# EAGLE library part 74*125 (library U-7400)
Quad bus BUFFER, 3-state
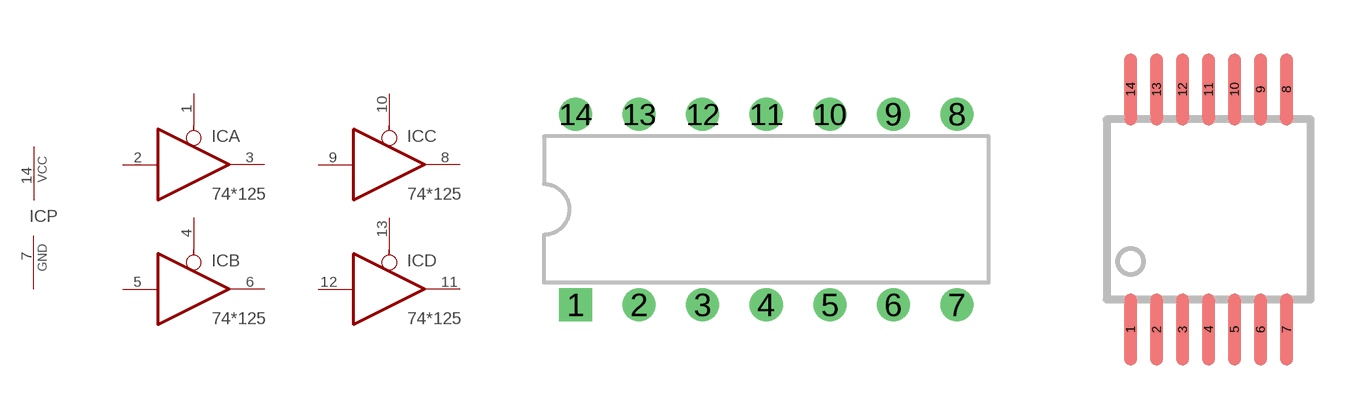
[diagram p185: symbol with the pads of 14DIP; footprints 14DIP, 14TSSOP]

Designator prefix IC; gates A=74125 B=74125 C=74125 D=74125 P=PWRN

## 74125N, 74LS125N  [14DIP]
1  A:OE  in
2  A:I  in
3  A:O  hiz
4  B:OE  in
5  B:I  in
6  B:O  hiz
7  P:GND  pwr
8  C:O  hiz
9  C:I  in
10  C:OE  in
11  D:O  hiz
12  D:I  in
13  D:OE  in
14  P:VCC  sup

## 74ABT125PW  [14TSSOP]
Pads as for 14DIP

## 74ABT125DB  [14SSOP]
Pads as for 14DIP

## Footprint 14DIP (pad centres in mm)
14POS Dual In-line Package
drill 0.813 square: 1 -7.62,-3.81
drill 0.813: 2 -5.08,-3.81; 3 -2.54,-3.81; 4 0,-3.81; 5 2.54,-3.81; 6 5.08,-3.81; 7 7.62,-3.81; 8 7.62,3.81; 9 5.08,3.81; 10 2.54,3.81; 11 0,3.81; 12 -2.54,3.81; 13 -5.08,3.81; 14 -7.62,3.81

## Footprint 14TSSOP (pad centres in mm)
14POS THIN SHRINK SMALL OUTLINE PACKAGE (14-TSSOP)
smd 0.33 x 1.8: 1 -1.95,-3; 2 -1.3,-3; 3 -0.65,-3; 4 0,-3; 5 0.65,-3; 6 1.3,-3; 7 1.95,-3; 8 1.95,3; 9 1.3,3; 10 0.65,3; 11 0,3; 12 -0.65,3; 13 -1.3,3; 14 -1.95,3

## Footprint 14SSOP (pad centres in mm)
14POS SHRINK SMALL OUTLINE PACKAGE (14-SSOP)
smd 0.4 x 1.5: 1 -1.95,-3.3; 2 -1.3,-3.3; 3 -0.65,-3.3; 4 0,-3.3; 5 0.65,-3.3; 6 1.3,-3.3; 7 1.95,-3.3; 8 1.95,3.3; 9 1.3,3.3; 10 0.65,3.3; 11 0,3.3; 12 -0.65,3.3; 13 -1.3,3.3; 14 -1.95,3.3